# EAGLE library part RT7272B (library SW_BuckBoost)
Buck Switching Regulator IC Positive Adjustable 0.8V 1 Output 3A 8-SOIC (0.154", 3.90mm Width) Exposed Pad
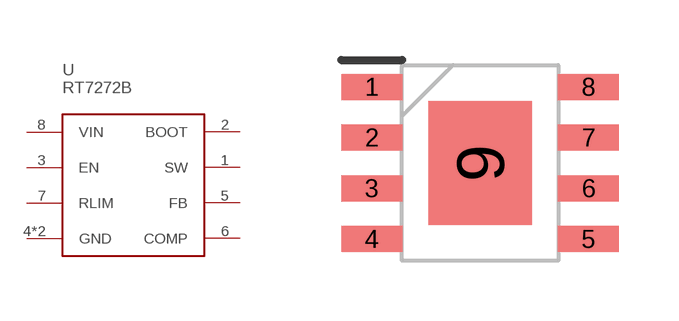
[diagram p4: symbol with the pads of SOIC-8-EP; footprint SOIC-8-EP]

Designator prefix U

## RT7272B (CATEGORY: Power; DESCRIPTION: Buck Switching Regulator IC Positive Adjustable 0.8V 1 Output 3A 8-SOIC (0.154", 3.90mm Width) Exposed Pad; MFGS: Richtek USA Inc.; MPNS: RT7272BGSP; PACKAGE: SOIC-8; PART_NUMBER: RT7272B; SW_PART_NUMBER: SW0000838)  [SOIC-8-EP]
1  SW
2  BOOT
3  EN
4  GND
5  FB
6  COMP
7  RLIM
8  VIN
9  GND

## Footprint SOIC-8-EP (pad centres in mm)
LMR33630ADDAR
smd 1.525 x 0.65: 1 -2.712,1.905; 2 -2.712,0.635; 3 -2.712,-0.635; 4 -2.712,-1.905; 5 2.712,-1.905; 6 2.712,-0.635; 7 2.712,0.635; 8 2.712,1.905
smd 2.6 x 3.1: 9 0,0